# Altium footprint library BTS3046SDRATMA1.PcbLib: 1 footprints
Each footprint in its own frame and in the unit in brackets; x right, y up, seen from the top. Pads: shape width x height; smd on the part's side, far side on the other; paste and mask are expansions set on the pad; w line width, h text height; cw(c..) or ccw(c..) is an arc to the next point about the centre after c.
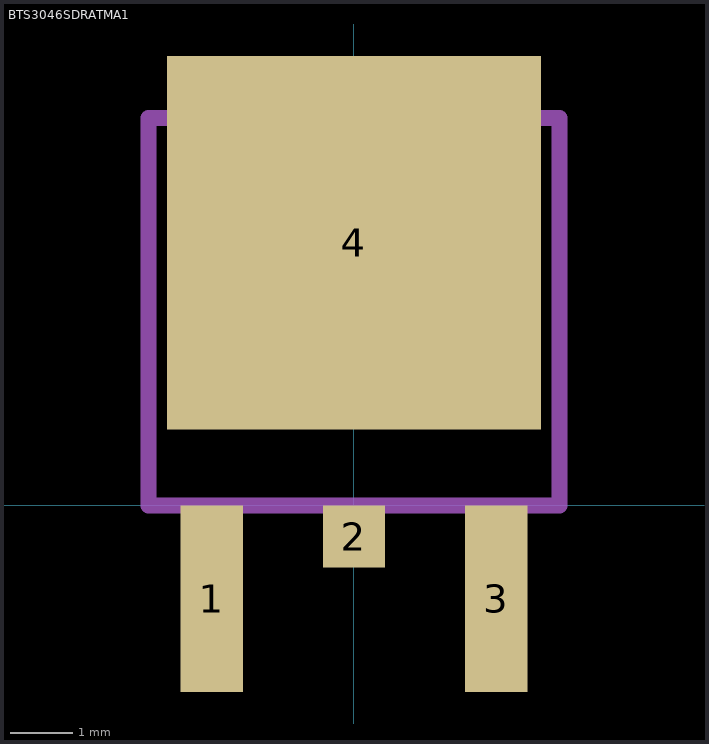
[diagram p0: the footprint, top view; thin cyan lines are the x and y axes]

## BTS3046SDRATMA1 [mm]
pads (4):
  rect 1x3 smd: 1(-2.285,-1.5) 3(2.285,-1.5)
  rect 1x1 smd: 2(0,-0.5)
  rect 6x6 smd: 4(0,4.22)
Mechanical 1:
  lines w0.254: -3.3,0 -3.3,6.22 3.3,6.22 3.3,0 -3.3,0